# Altium schematic symbol library DRV8300DRGER.SchLib: 1 symbol
Pins are listed as number, name and electrical type; pins without a type are passive.

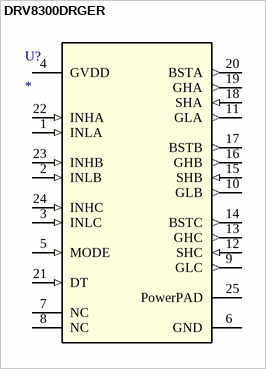
[diagram p0: symbol DRV8300DRGER]

## DRV8300DRGER
designator U?
No Description Available; Mfr_Name: Texas Instruments; TYPE: TYPE; RefDes: RefDes
footprint RGE0024B-MFG
footprint RGE0024B-IPC_C
footprint RGE0024B-IPC_A
footprint RGE0024B-IPC_B
pins: 1 INLA (in), 2 INLB (in), 3 INLC (in), 4 GVDD (power), 5 MODE (in), 6 GND (power), 7 NC, 8 NC, 9 GLC (out), 10 GLB (out), 11 GLA (out), 12 SHC (in), 13 GHC (out), 14 BSTC (out), 15 SHB (in), 16 GHB (out), 17 BSTB (out), 18 SHA (in), 19 GHA (out), 20 BSTA (out), 21 DT (in), 22 INHA (in), 23 INHB (in), 24 INHC (in), 25 PowerPAD (power)